# Altium integrated library TI Power Management Power Modules.IntLib: 831 symbols (part 13 of 44)
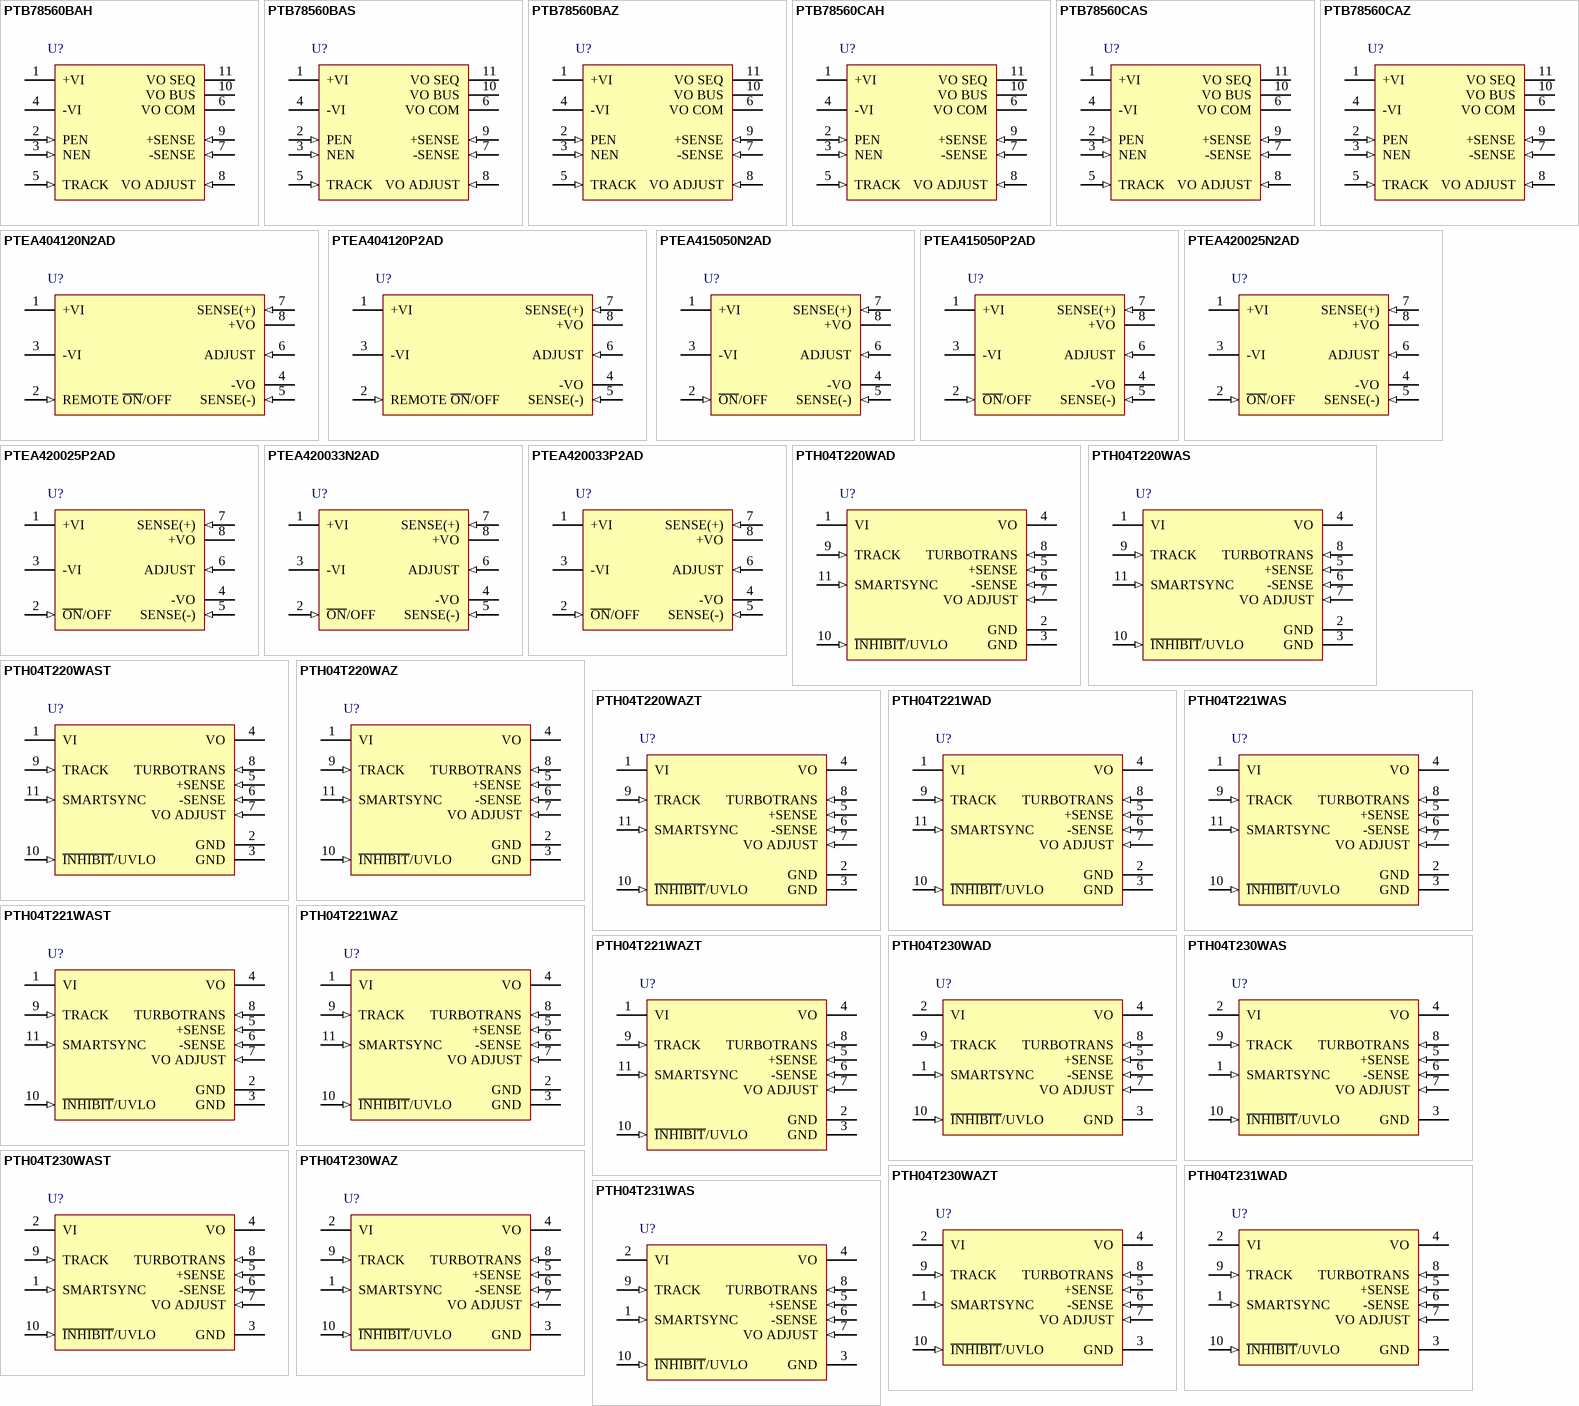
[diagram p35: symbols PTB78560BAH to PTH04T231WAS]

## PTH04T220WAZ
designator U?
16 A, 2.2 to 5.5 V Input, Non-Isolated, Wide-Output, Adjustable Power Module with TurboTrans, -40 to 85 degC, 11-pin Module (BBQ11), Pb-Free (RoHS); Manufacturer: Texas Instruments; PartNumber: PTH04T220WAZ; Iout(Max)(A): 16; Regulated Outputs(#): 1; SubFamily: Non-Isolated POL; Vin(Max)(V): 5.5; Vin(Min)(V): 2.2; VO Adjustable: TRUE; Vout(Max)(V): 3.6; Vout(Min)(V): 0.69; DatasheetVersion: SLTS275D; PackageVersion: 4208350/C; PackageReference: BBQ11; PackageDescription: 11-Pin Plastic Special Shape, Body 18.92 x 25.27 mm; Supplier 1: Digi-Key; Supplier Part Number 1: 296-21403-ND; Supplier 2: Newark; Supplier Part Number 2: 27M0667; Supplier 3: Mouser; Supplier Part Number 3: 595-PTH04T220WAZ; Eco-Plan: Pb-Free (RoHS); Mounting Technology: Surface Mount; ComponentLink1Description: Manufacturer URL; ComponentLink1URL: http://www.ti.com/; ComponentLink2Description: Datasheet; ComponentLink2URL: http://www.ti.com/general/docs/lit/getliterature.tsp?genericPartNumber=PTH04T220W&fileType=pdf; ComponentLink3Description: Package Specification; ComponentLink3URL: http://www.ti.com/lit/ml/mpds313b/mpds313b.pdf; ComponentLink4Description: URL Link1; ComponentLink4URL: Samples URL:http://www.ti.com/product/pth04t220w#samples
footprint TI-BBQ11_V (Module, 11-Leads, Body 25.27x18.92mm)
pins: 1 VI (power) "The positive input voltage power node to the module, which is referenced to common GND.", 2 GND (power) "This is the common ground connection for the VI and VO power connections. It is also the 0 Vdc reference for the control inputs.", 3 GND (power) "This is the common ground connection for the VI and VO power connections. It is also the 0 Vdc reference for the control inputs.", 4 VO (power) "The regulated positive power output with respect to the GND", 5 +SENSE (in) "The sense input allows the regulation circuit to compensate for voltage drop between the module and the load. For optimal voltage accuracy, +Sense must be connected to VO, close to the load.", 6 -SENSE (in) "The sense input allows the regulation circuit to compensate for voltage drop between the module and the load. For optimal voltage accuracy, -Sense must be connected to GND (pin 3), very close to the module (within 10 cm).", 7 VO ADJUST (in) "A 0.05 W 1% resistor must be directly connected between this pin and pin 6 (- Sense) to set the output voltage to a value higher than 0.69 V. The temperature stability of the resistor should be 100 ppm/degreesC (or better). (See Datasheet)", 8 TURBOTRANS (in) "This input pin adjusts the transient response of the regulator. To activate the TurboTrans feature, a 1%, 0.05 W resistor must be connected between this pin and pin 5 (+Sense) very close to the module. For a given value of (See Datasheet)", 9 TRACK (in) "This is an analog control input that enables the output voltage to follow an external voltage. This pin becomes active typically 20 ms after the input voltage has been applied, and allows direct control of the output voltage (See Datasheet)", 10 ~{INHIBIT}/UVLO (in) "The Inhibit pin is an open-collector/drain, negative logic input that is referenced to GND. Applying a low level ground signal to this input disables the module’s output and turns off the output voltage. When the Inhibit (See Datasheet)", 11 SMARTSYNC (in) "This input pin sychronizes the switching frequency of the module to an external clock frequency. The SmartSync feature can be used to sychronize the switching fequency of multiple PTH04T220/221W  modules, aiding EMI noise (See Datasheet)"

## PTH04T220WAZT
designator U?
16 A, 2.2 to 5.5 V Input, Non-Isolated, Wide-Output, Adjustable Power Module with TurboTrans, -40 to 85 degC, 11-pin Module (BBQ11), Pb-Free (RoHS); Manufacturer: Texas Instruments; PartNumber: PTH04T220WAZT; Iout(Max)(A): 16; Regulated Outputs(#): 1; SubFamily: Non-Isolated POL; Vin(Max)(V): 5.5; Vin(Min)(V): 2.2; VO Adjustable: TRUE; Vout(Max)(V): 3.6; Vout(Min)(V): 0.69; DatasheetVersion: SLTS275D; PackageVersion: 4208350/C; PackageReference: BBQ11; PackageDescription: 11-Pin Plastic Special Shape, Body 18.92 x 25.27 mm; Supplier 1: Digi-Key; Supplier Part Number 1: PTH04T220WAZT-ND; Supplier 2: Mouser; Supplier Part Number 2: 595-PTH04T220WAZT; Eco-Plan: Pb-Free (RoHS); Mounting Technology: Surface Mount; ComponentLink1Description: Manufacturer URL; ComponentLink1URL: http://www.ti.com/; ComponentLink2Description: Datasheet; ComponentLink2URL: http://www.ti.com/general/docs/lit/getliterature.tsp?genericPartNumber=PTH04T220W&fileType=pdf; ComponentLink3Description: Package Specification; ComponentLink3URL: http://www.ti.com/lit/ml/mpds313b/mpds313b.pdf; ComponentLink4Description: URL Link1; ComponentLink4URL: Samples URL:http://www.ti.com/product/tps55010#samples
footprint TI-BBQ11_V (Module, 11-Leads, Body 25.27x18.92mm)
pins: 1 VI (power) "The positive input voltage power node to the module, which is referenced to common GND.", 2 GND (power) "This is the common ground connection for the VI and VO power connections. It is also the 0 Vdc reference for the control inputs.", 3 GND (power) "This is the common ground connection for the VI and VO power connections. It is also the 0 Vdc reference for the control inputs.", 4 VO (power) "The regulated positive power output with respect to the GND", 5 +SENSE (in) "The sense input allows the regulation circuit to compensate for voltage drop between the module and the load. For optimal voltage accuracy, +Sense must be connected to VO, close to the load.", 6 -SENSE (in) "The sense input allows the regulation circuit to compensate for voltage drop between the module and the load. For optimal voltage accuracy, -Sense must be connected to GND (pin 3), very close to the module (within 10 cm).", 7 VO ADJUST (in) "A 0.05 W 1% resistor must be directly connected between this pin and pin 6 (- Sense) to set the output voltage to a value higher than 0.69 V. The temperature stability of the resistor should be 100 ppm/degreesC (or better). (See Datasheet)", 8 TURBOTRANS (in) "This input pin adjusts the transient response of the regulator. To activate the TurboTrans feature, a 1%, 0.05 W resistor must be connected between this pin and pin 5 (+Sense) very close to the module. For a given value of (See Datasheet)", 9 TRACK (in) "This is an analog control input that enables the output voltage to follow an external voltage. This pin becomes active typically 20 ms after the input voltage has been applied, and allows direct control of the output voltage (See Datasheet)", 10 ~{INHIBIT}/UVLO (in) "The Inhibit pin is an open-collector/drain, negative logic input that is referenced to GND. Applying a low level ground signal to this input disables the module’s output and turns off the output voltage. When the Inhibit (See Datasheet)", 11 SMARTSYNC (in) "This input pin sychronizes the switching frequency of the module to an external clock frequency. The SmartSync feature can be used to sychronize the switching fequency of multiple PTH04T220/221W  modules, aiding EMI noise (See Datasheet)"

## PTH04T221WAD
designator U?
16 A, 2.2 to 5.5 V Input, Ceramic Cap Version, Non-Isolated, Wide-Output, Power Module with TurboTrans, -40 to 85 degC, 11-pin Module (EBP11), Pb-Free (RoHS); Manufacturer: Texas Instruments; PartNumber: PTH04T221WAD; Iout(Max)(A): 16; Regulated Outputs(#): 1; SubFamily: Non-Isolated POL; Vin(Max)(V): 5.5; Vin(Min)(V): 2.2; VO Adjustable: TRUE; Vout(Max)(V): 3.6; Vout(Min)(V): 0.69; DatasheetVersion: SLTS275D; PackageVersion: 4208348/C; PackageReference: EBP11; PackageDescription: 11-Pin Plastic Special Shape, Body 18.92 x 25.27 mm; Supplier 1: Digi-Key; Supplier Part Number 1: 296-21787-ND; Supplier 2: Newark; Supplier Part Number 2: 41M4000; Supplier 3: Mouser; Supplier Part Number 3: 595-PTH04T221WAD; Eco-Plan: Pb-Free (RoHS); Mounting Technology: Through Hole; ComponentLink1Description: Manufacturer URL; ComponentLink1URL: http://www.ti.com/; ComponentLink2Description: Datasheet; ComponentLink2URL: http://www.ti.com/general/docs/lit/getliterature.tsp?genericPartNumber=PTH04T221W&fileType=pdf; ComponentLink3Description: Package Specification; ComponentLink3URL: http://www.ti.com/litv/pdf/mpds311b; ComponentLink4Description: URL Link1; ComponentLink4URL: Samples URL:http://www.ti.com/product/pth04t221w#samples
footprint TI-EBP11_V (Module, 11-Leads, Body 25.27x18.92mm)
pins: 1 VI (power) "The positive input voltage power node to the module, which is referenced to common GND.", 2 GND (power) "This is the common ground connection for the VI and VO power connections. It is also the 0 Vdc reference for the control inputs.", 3 GND (power) "This is the common ground connection for the VI and VO power connections. It is also the 0 Vdc reference for the control inputs.", 4 VO (power) "The regulated positive power output with respect to the GND", 5 +SENSE (in) "The sense input allows the regulation circuit to compensate for voltage drop between the module and the load. For optimal voltage accuracy, +Sense must be connected to VO, close to the load.", 6 -SENSE (in) "The sense input allows the regulation circuit to compensate for voltage drop between the module and the load. For optimal voltage accuracy, -Sense must be connected to GND (pin 3), very close to the module (within 10 cm).", 7 VO ADJUST (in) "A 0.05 W 1% resistor must be directly connected between this pin and pin 6 (- Sense) to set the output voltage to a value higher than 0.69 V. The temperature stability of the resistor should be 100 ppm/degreesC (or better). (See Datasheet)", 8 TURBOTRANS (in) "This input pin adjusts the transient response of the regulator. To activate the TurboTrans feature, a 1%, 0.05 W resistor must be connected between this pin and pin 5 (+Sense) very close to the module. For a given value of (See Datasheet)", 9 TRACK (in) "This is an analog control input that enables the output voltage to follow an external voltage. This pin becomes active typically 20 ms after the input voltage has been applied, and allows direct control of the output voltage (See Datasheet)", 10 ~{INHIBIT}/UVLO (in) "The Inhibit pin is an open-collector/drain, negative logic input that is referenced to GND. Applying a low level ground signal to this input disables the module’s output and turns off the output voltage. When the Inhibit (See Datasheet)", 11 SMARTSYNC (in) "This input pin sychronizes the switching frequency of the module to an external clock frequency. The SmartSync feature can be used to sychronize the switching fequency of multiple PTH04T220/221W  modules, aiding EMI noise (See Datasheet)"

## PTH04T221WAS
designator U?
16 A, 2.2 to 5.5 V Input, Ceramic Cap Version, Non-Isolated, Wide-Output, Power Module with TurboTrans, -40 to 85 degC, 11-pin Module (EBQ11); Manufacturer: Texas Instruments; PartNumber: PTH04T221WAS; Eco-Plan: TBD; Iout(Max)(A): 16; Regulated Outputs(#): 1; SubFamily: Non-Isolated POL; Vin(Max)(V): 5.5; Vin(Min)(V): 2.2; VO Adjustable: TRUE; Vout(Max)(V): 3.6; Vout(Min)(V): 0.69; DatasheetVersion: SLTS275D; PackageVersion: 4208349/C; PackageReference: EBQ11; PackageDescription: 11-Pin Plastic Special Shape, Body 18.92 x 25.27 mm; Supplier 1: Digi-Key; Supplier Part Number 1: 296-21788-ND; Supplier 2: Newark; Supplier Part Number 2: 41M4001; Supplier 3: Mouser; Supplier Part Number 3: 595-PTH04T221WAS; Mounting Technology: Surface Mount; ComponentLink1Description: Manufacturer URL; ComponentLink1URL: http://www.ti.com/; ComponentLink2Description: Datasheet; ComponentLink2URL: http://www.ti.com/general/docs/lit/getliterature.tsp?genericPartNumber=PTH04T221W&fileType=pdf; ComponentLink3Description: Package Specification; ComponentLink3URL: http://www.ti.com/lit/ml/mpds314b/mpds314b.pdf; ComponentLink4Description: URL Link1; ComponentLink4URL: Samples URL:http://www.ti.com/product/pth04t221w#samples
footprint TI-EBQ11_V (Module, 11-Leads, Body 25.27x18.92mm)
pins: 1 VI (power) "The positive input voltage power node to the module, which is referenced to common GND.", 2 GND (power) "This is the common ground connection for the VI and VO power connections. It is also the 0 Vdc reference for the control inputs.", 3 GND (power) "This is the common ground connection for the VI and VO power connections. It is also the 0 Vdc reference for the control inputs.", 4 VO (power) "The regulated positive power output with respect to the GND", 5 +SENSE (in) "The sense input allows the regulation circuit to compensate for voltage drop between the module and the load. For optimal voltage accuracy, +Sense must be connected to VO, close to the load.", 6 -SENSE (in) "The sense input allows the regulation circuit to compensate for voltage drop between the module and the load. For optimal voltage accuracy, -Sense must be connected to GND (pin 3), very close to the module (within 10 cm).", 7 VO ADJUST (in) "A 0.05 W 1% resistor must be directly connected between this pin and pin 6 (- Sense) to set the output voltage to a value higher than 0.69 V. The temperature stability of the resistor should be 100 ppm/degreesC (or better). (See Datasheet)", 8 TURBOTRANS (in) "This input pin adjusts the transient response of the regulator. To activate the TurboTrans feature, a 1%, 0.05 W resistor must be connected between this pin and pin 5 (+Sense) very close to the module. For a given value of (See Datasheet)", 9 TRACK (in) "This is an analog control input that enables the output voltage to follow an external voltage. This pin becomes active typically 20 ms after the input voltage has been applied, and allows direct control of the output voltage (See Datasheet)", 10 ~{INHIBIT}/UVLO (in) "The Inhibit pin is an open-collector/drain, negative logic input that is referenced to GND. Applying a low level ground signal to this input disables the module’s output and turns off the output voltage. When the Inhibit (See Datasheet)", 11 SMARTSYNC (in) "This input pin sychronizes the switching frequency of the module to an external clock frequency. The SmartSync feature can be used to sychronize the switching fequency of multiple PTH04T220/221W  modules, aiding EMI noise (See Datasheet)"

## PTH04T221WAST
designator U?
16 A, 2.2 to 5.5 V Input, Ceramic Cap Version, Non-Isolated, Wide-Output, Power Module with TurboTrans, -40 to 85 degC, 11-pin Module (EBQ11); Manufacturer: Texas Instruments; PartNumber: PTH04T221WAST; Eco-Plan: TBD; Iout(Max)(A): 16; Regulated Outputs(#): 1; SubFamily: Non-Isolated POL; Vin(Max)(V): 5.5; Vin(Min)(V): 2.2; VO Adjustable: TRUE; Vout(Max)(V): 3.6; Vout(Min)(V): 0.69; DatasheetVersion: SLTS275D; PackageVersion: 4208349/C; PackageReference: EBQ11; PackageDescription: 11-Pin Plastic Special Shape, Body 18.92 x 25.27 mm; Supplier 1: Digi-Key; Supplier Part Number 1: PTH04T221WAST-ND; Supplier 2: Mouser; Supplier Part Number 2: 595-PTH04T221WAST; Mounting Technology: Surface Mount; ComponentLink1Description: Manufacturer URL; ComponentLink1URL: http://www.ti.com/; ComponentLink2Description: Datasheet; ComponentLink2URL: http://www.ti.com/general/docs/lit/getliterature.tsp?genericPartNumber=PTH04T221W&fileType=pdf; ComponentLink3Description: Package Specification; ComponentLink3URL: http://www.ti.com/lit/ml/mpds314b/mpds314b.pdf; ComponentLink4Description: URL Link1; ComponentLink4URL: Samples URL:http://www.ti.com/product/pth04t221w#samples
footprint TI-EBQ11_V (Module, 11-Leads, Body 25.27x18.92mm)
pins: 1 VI (power) "The positive input voltage power node to the module, which is referenced to common GND.", 2 GND (power) "This is the common ground connection for the VI and VO power connections. It is also the 0 Vdc reference for the control inputs.", 3 GND (power) "This is the common ground connection for the VI and VO power connections. It is also the 0 Vdc reference for the control inputs.", 4 VO (power) "The regulated positive power output with respect to the GND", 5 +SENSE (in) "The sense input allows the regulation circuit to compensate for voltage drop between the module and the load. For optimal voltage accuracy, +Sense must be connected to VO, close to the load.", 6 -SENSE (in) "The sense input allows the regulation circuit to compensate for voltage drop between the module and the load. For optimal voltage accuracy, -Sense must be connected to GND (pin 3), very close to the module (within 10 cm).", 7 VO ADJUST (in) "A 0.05 W 1% resistor must be directly connected between this pin and pin 6 (- Sense) to set the output voltage to a value higher than 0.69 V. The temperature stability of the resistor should be 100 ppm/degreesC (or better). (See Datasheet)", 8 TURBOTRANS (in) "This input pin adjusts the transient response of the regulator. To activate the TurboTrans feature, a 1%, 0.05 W resistor must be connected between this pin and pin 5 (+Sense) very close to the module. For a given value of (See Datasheet)", 9 TRACK (in) "This is an analog control input that enables the output voltage to follow an external voltage. This pin becomes active typically 20 ms after the input voltage has been applied, and allows direct control of the output voltage (See Datasheet)", 10 ~{INHIBIT}/UVLO (in) "The Inhibit pin is an open-collector/drain, negative logic input that is referenced to GND. Applying a low level ground signal to this input disables the module’s output and turns off the output voltage. When the Inhibit (See Datasheet)", 11 SMARTSYNC (in) "This input pin sychronizes the switching frequency of the module to an external clock frequency. The SmartSync feature can be used to sychronize the switching fequency of multiple PTH04T220/221W  modules, aiding EMI noise (See Datasheet)"

## PTH04T221WAZ
designator U?
16 A, 2.2 to 5.5 V Input, Ceramic Cap Version, Non-Isolated, Wide-Output, Power Module with TurboTrans, -40 to 85 degC, 11-pin Module (BBQ11), Pb-Free (RoHS); Manufacturer: Texas Instruments; PartNumber: PTH04T221WAZ; Iout(Max)(A): 16; Regulated Outputs(#): 1; SubFamily: Non-Isolated POL; Vin(Max)(V): 5.5; Vin(Min)(V): 2.2; VO Adjustable: TRUE; Vout(Max)(V): 3.6; Vout(Min)(V): 0.69; DatasheetVersion: SLTS275D; PackageVersion: 4208350/C; PackageReference: BBQ11; PackageDescription: 11-Pin Plastic Special Shape, Body 18.92 x 25.27 mm; Supplier 1: Digi-Key; Supplier Part Number 1: 296-21789-ND; Supplier 2: Newark; Supplier Part Number 2: 41M4003; Supplier 3: Mouser; Supplier Part Number 3: 595-PTH04T221WAZ; Eco-Plan: Pb-Free (RoHS); Mounting Technology: Surface Mount; ComponentLink1Description: Manufacturer URL; ComponentLink1URL: http://www.ti.com/; ComponentLink2Description: Datasheet; ComponentLink2URL: http://www.ti.com/general/docs/lit/getliterature.tsp?genericPartNumber=PTH04T221W&fileType=pdf; ComponentLink3Description: Package Specification; ComponentLink3URL: http://www.ti.com/lit/ml/mpds313b/mpds313b.pdf; ComponentLink4Description: URL Link1; ComponentLink4URL: Samples URL:http://www.ti.com/product/pth04t221w#samples
footprint TI-BBQ11_V (Module, 11-Leads, Body 25.27x18.92mm)
pins: 1 VI (power) "The positive input voltage power node to the module, which is referenced to common GND.", 2 GND (power) "This is the common ground connection for the VI and VO power connections. It is also the 0 Vdc reference for the control inputs.", 3 GND (power) "This is the common ground connection for the VI and VO power connections. It is also the 0 Vdc reference for the control inputs.", 4 VO (power) "The regulated positive power output with respect to the GND", 5 +SENSE (in) "The sense input allows the regulation circuit to compensate for voltage drop between the module and the load. For optimal voltage accuracy, +Sense must be connected to VO, close to the load.", 6 -SENSE (in) "The sense input allows the regulation circuit to compensate for voltage drop between the module and the load. For optimal voltage accuracy, -Sense must be connected to GND (pin 3), very close to the module (within 10 cm).", 7 VO ADJUST (in) "A 0.05 W 1% resistor must be directly connected between this pin and pin 6 (- Sense) to set the output voltage to a value higher than 0.69 V. The temperature stability of the resistor should be 100 ppm/degreesC (or better). (See Datasheet)", 8 TURBOTRANS (in) "This input pin adjusts the transient response of the regulator. To activate the TurboTrans feature, a 1%, 0.05 W resistor must be connected between this pin and pin 5 (+Sense) very close to the module. For a given value of (See Datasheet)", 9 TRACK (in) "This is an analog control input that enables the output voltage to follow an external voltage. This pin becomes active typically 20 ms after the input voltage has been applied, and allows direct control of the output voltage (See Datasheet)", 10 ~{INHIBIT}/UVLO (in) "The Inhibit pin is an open-collector/drain, negative logic input that is referenced to GND. Applying a low level ground signal to this input disables the module’s output and turns off the output voltage. When the Inhibit (See Datasheet)", 11 SMARTSYNC (in) "This input pin sychronizes the switching frequency of the module to an external clock frequency. The SmartSync feature can be used to sychronize the switching fequency of multiple PTH04T220/221W  modules, aiding EMI noise (See Datasheet)"

## PTH04T221WAZT
designator U?
16 A, 2.2 to 5.5 V Input, Ceramic Cap Version, Non-Isolated, Wide-Output, Power Module with TurboTrans, -40 to 85 degC, 11-pin Module (BBQ11), Pb-Free (RoHS); Manufacturer: Texas Instruments; PartNumber: PTH04T221WAZT; Iout(Max)(A): 16; Regulated Outputs(#): 1; SubFamily: Non-Isolated POL; Vin(Max)(V): 5.5; Vin(Min)(V): 2.2; VO Adjustable: TRUE; Vout(Max)(V): 3.6; Vout(Min)(V): 0.69; DatasheetVersion: SLTS275D; PackageVersion: 4208350/C; PackageReference: BBQ11; PackageDescription: 11-Pin Plastic Special Shape, Body 18.92 x 25.27 mm; Supplier 1: Digi-Key; Supplier Part Number 1: PTH04T221WAZT-ND; Supplier 2: Mouser; Supplier Part Number 2: 595-PTH04T221WAZT; Eco-Plan: Pb-Free (RoHS); Mounting Technology: Surface Mount; ComponentLink1Description: Manufacturer URL; ComponentLink1URL: http://www.ti.com/; ComponentLink2Description: Datasheet; ComponentLink2URL: http://www.ti.com/general/docs/lit/getliterature.tsp?genericPartNumber=PTH04T221W&fileType=pdf; ComponentLink3Description: Package Specification; ComponentLink3URL: http://www.ti.com/lit/ml/mpds313b/mpds313b.pdf; ComponentLink4Description: URL Link1; ComponentLink4URL: Samples URL:http://www.ti.com/product/tps55010#samples
footprint TI-BBQ11_V (Module, 11-Leads, Body 25.27x18.92mm)
pins: 1 VI (power) "The positive input voltage power node to the module, which is referenced to common GND.", 2 GND (power) "This is the common ground connection for the VI and VO power connections. It is also the 0 Vdc reference for the control inputs.", 3 GND (power) "This is the common ground connection for the VI and VO power connections. It is also the 0 Vdc reference for the control inputs.", 4 VO (power) "The regulated positive power output with respect to the GND", 5 +SENSE (in) "The sense input allows the regulation circuit to compensate for voltage drop between the module and the load. For optimal voltage accuracy, +Sense must be connected to VO, close to the load.", 6 -SENSE (in) "The sense input allows the regulation circuit to compensate for voltage drop between the module and the load. For optimal voltage accuracy, -Sense must be connected to GND (pin 3), very close to the module (within 10 cm).", 7 VO ADJUST (in) "A 0.05 W 1% resistor must be directly connected between this pin and pin 6 (- Sense) to set the output voltage to a value higher than 0.69 V. The temperature stability of the resistor should be 100 ppm/degreesC (or better). (See Datasheet)", 8 TURBOTRANS (in) "This input pin adjusts the transient response of the regulator. To activate the TurboTrans feature, a 1%, 0.05 W resistor must be connected between this pin and pin 5 (+Sense) very close to the module. For a given value of (See Datasheet)", 9 TRACK (in) "This is an analog control input that enables the output voltage to follow an external voltage. This pin becomes active typically 20 ms after the input voltage has been applied, and allows direct control of the output voltage (See Datasheet)", 10 ~{INHIBIT}/UVLO (in) "The Inhibit pin is an open-collector/drain, negative logic input that is referenced to GND. Applying a low level ground signal to this input disables the module’s output and turns off the output voltage. When the Inhibit (See Datasheet)", 11 SMARTSYNC (in) "This input pin sychronizes the switching frequency of the module to an external clock frequency. The SmartSync feature can be used to sychronize the switching fequency of multiple PTH04T220/221W  modules, aiding EMI noise (See Datasheet)"

## PTH04T230WAD
designator U?
6 A, 2.2 to 5.5 V Input, Non-Isolated, Wide Output, Adjustable Power Module with TurboTrans, -40 to 85 degC, 10-pin Module (ECL10), Pb-Free (RoHS); Manufacturer: Texas Instruments; PartNumber: PTH04T230WAD; Iout(Max)(A): 6; Regulated Outputs(#): 1; SubFamily: Non-Isolated POL; Vin(Max)(V): 5.5; Vin(Min)(V): 2.2; VO Adjustable: TRUE; Vout(Max)(V): 3.6; Vout(Min)(V): 0.69; DatasheetVersion: SLTS271C; PackageVersion: 4207913/D; PackageReference: ECL10; PackageDescription: 10-Pin Plastic Special Shape, Body 15.75 x 18.92 mm; Supplier 1: Digi-Key; Supplier Part Number 1: 296-21310-ND; Supplier 2: Newark; Supplier Part Number 2: 18M7532; Supplier 3: Mouser; Supplier Part Number 3: 595-PTH04T230WAD; Eco-Plan: Pb-Free (RoHS); Mounting Technology: Through Hole; ComponentLink1Description: Manufacturer URL; ComponentLink1URL: http://www.ti.com/; ComponentLink2Description: Datasheet; ComponentLink2URL: http://www.ti.com/general/docs/lit/getliterature.tsp?genericPartNumber=PTH04T230W&fileType=pdf; ComponentLink3Description: Package Specification; ComponentLink3URL: http://www.ti.com/litv/pdf/mpds290c; ComponentLink4Description: URL Link1; ComponentLink4URL: Samples URL:http://www.ti.com/product/pth04t230w#samples
footprint TI-ECL10_V (Module, 10-Leads, Body 18.92x15.75 mm)
pins: 1 SMARTSYNC (in) "This input pin sychronizes the switching frequency of the module to an external clock frequency. The SmartSync feature can be used to sychronize the switching fequency of multiple PTH04T230/231W modules, aiding EMI noise (See Datasheet)", 2 VI (power) "The positive input voltage power node to the module, which is referenced to common GND.", 3 GND (power) "This is the common ground connection for the VI and VO power connections. It is also the 0 Vdc reference for the control inputs.", 4 VO (power) "The regulated positive power output with respect to the GND", 5 +SENSE (in) "The sense input allows the regulation circuit to compensate for voltage drop between the module and the load. For optimal voltage accuracy, +Sense must be connected to VO, close to the load.", 6 -SENSE (in) "The sense input allows the regulation circuit to compensate for voltage drop between the module and the load. For optimal voltage accuracy, -Sense must be connected to GND (pin 3), very close to the module (within 10 cm).", 7 VO ADJUST (in) "A 0.05 W 1% resistor must be directly connected between this pin and pin 6 (- Sense) to set the output voltage to a value higher than 0.69 V. The temperature stability of the resistor should be 100 ppm/degreesC (or better). (See Datasheet)", 8 TURBOTRANS (in) "This input pin adjusts the transient response of the regulator. To activate the TurboTrans feature, a 1%, 0.05 W resistor must be connected between this pin and pin 5 (+Sense) very close to the module. For a given value of (See Datasheet)", 9 TRACK (in) "This is an analog control input that enables the output voltage to follow an external voltage. This pin becomes active typically 20 ms after the input voltage has been applied, and allows direct control of the output voltage (See Datasheet)", 10 ~{INHIBIT}/UVLO (in) "The Inhibit pin is an open-collector/drain, negative logic input that is referenced to GND. Applying a low level ground signal to this input disables the module’s output and turns off the output voltage. When the Inhibit (See Datasheet)"

## PTH04T230WAS
designator U?
6 A, 2.2 to 5.5 V Input, Non-Isolated, Wide Output, Adjustable Power Module with TurboTrans, -40 to 85 degC, 10-pin Module (ECM10); Manufacturer: Texas Instruments; PartNumber: PTH04T230WAS; Eco-Plan: TBD; Iout(Max)(A): 6; Regulated Outputs(#): 1; SubFamily: Non-Isolated POL; Vin(Max)(V): 5.5; Vin(Min)(V): 2.2; VO Adjustable: TRUE; Vout(Max)(V): 3.6; Vout(Min)(V): 0.69; DatasheetVersion: SLTS271C; PackageVersion: 4207914/E; PackageReference: ECM10; PackageDescription: 10-Pin Plastic Special Shape, Body 15.75 x 18.92 mm; Supplier 1: Digi-Key; Supplier Part Number 1: 296-21311-ND; Supplier 2: Newark; Supplier Part Number 2: 18M7533; Supplier 3: Mouser; Supplier Part Number 3: 595-PTH04T230WAS; Mounting Technology: Surface Mount; ComponentLink1Description: Manufacturer URL; ComponentLink1URL: http://www.ti.com/; ComponentLink2Description: Datasheet; ComponentLink2URL: http://www.ti.com/general/docs/lit/getliterature.tsp?genericPartNumber=PTH04T230W&fileType=pdf; ComponentLink3Description: Package Specification; ComponentLink3URL: http://www.ti.com/litv/pdf/mpds291d; ComponentLink4Description: URL Link1; ComponentLink4URL: Samples URL:http://www.ti.com/product/pth04t230w#samples
footprint TI-ECM10_V (Module, 10-Leads, Body 18.92x15.75mm)
pins: 1 SMARTSYNC (in) "This input pin sychronizes the switching frequency of the module to an external clock frequency. The SmartSync feature can be used to sychronize the switching fequency of multiple PTH04T230/231W modules, aiding EMI noise (See Datasheet)", 2 VI (power) "The positive input voltage power node to the module, which is referenced to common GND.", 3 GND (power) "This is the common ground connection for the VI and VO power connections. It is also the 0 Vdc reference for the control inputs.", 4 VO (power) "The regulated positive power output with respect to the GND", 5 +SENSE (in) "The sense input allows the regulation circuit to compensate for voltage drop between the module and the load. For optimal voltage accuracy, +Sense must be connected to VO, close to the load.", 6 -SENSE (in) "The sense input allows the regulation circuit to compensate for voltage drop between the module and the load. For optimal voltage accuracy, -Sense must be connected to GND (pin 3), very close to the module (within 10 cm).", 7 VO ADJUST (in) "A 0.05 W 1% resistor must be directly connected between this pin and pin 6 (- Sense) to set the output voltage to a value higher than 0.69 V. The temperature stability of the resistor should be 100 ppm/degreesC (or better). (See Datasheet)", 8 TURBOTRANS (in) "This input pin adjusts the transient response of the regulator. To activate the TurboTrans feature, a 1%, 0.05 W resistor must be connected between this pin and pin 5 (+Sense) very close to the module. For a given value of (See Datasheet)", 9 TRACK (in) "This is an analog control input that enables the output voltage to follow an external voltage. This pin becomes active typically 20 ms after the input voltage has been applied, and allows direct control of the output voltage (See Datasheet)", 10 ~{INHIBIT}/UVLO (in) "The Inhibit pin is an open-collector/drain, negative logic input that is referenced to GND. Applying a low level ground signal to this input disables the module’s output and turns off the output voltage. When the Inhibit (See Datasheet)"

## PTH04T230WAST
designator U?
6 A, 2.2 to 5.5 V Input, Non-Isolated, Wide Output, Adjustable Power Module with TurboTrans, -40 to 85 degC, 10-pin Module (ECM10); Manufacturer: Texas Instruments; PartNumber: PTH04T230WAST; Eco-Plan: TBD; Iout(Max)(A): 6; Regulated Outputs(#): 1; SubFamily: Non-Isolated POL; Vin(Max)(V): 5.5; Vin(Min)(V): 2.2; VO Adjustable: TRUE; Vout(Max)(V): 3.6; Vout(Min)(V): 0.69; DatasheetVersion: SLTS271C; PackageVersion: 4207914/E; PackageReference: ECM10; PackageDescription: 10-Pin Plastic Special Shape, Body 15.75 x 18.92 mm; Supplier 1: Digi-Key; Supplier Part Number 1: PTH04T230WAST-ND; Supplier 2: Newark; Supplier Part Number 2: 18M7534; Supplier 3: Mouser; Supplier Part Number 3: 595-PTH04T230WAST; Mounting Technology: Surface Mount; ComponentLink1Description: Manufacturer URL; ComponentLink1URL: http://www.ti.com/; ComponentLink2Description: Datasheet; ComponentLink2URL: http://www.ti.com/general/docs/lit/getliterature.tsp?genericPartNumber=PTH04T230W&fileType=pdf; ComponentLink3Description: Package Specification; ComponentLink3URL: http://www.ti.com/litv/pdf/mpds291d; ComponentLink4Description: URL Link1; ComponentLink4URL: Samples URL:http://www.ti.com/product/pth04t230w#samples
footprint TI-ECM10_V (Module, 10-Leads, Body 18.92x15.75mm)
pins: 1 SMARTSYNC (in) "This input pin sychronizes the switching frequency of the module to an external clock frequency. The SmartSync feature can be used to sychronize the switching fequency of multiple PTH04T230/231W modules, aiding EMI noise (See Datasheet)", 2 VI (power) "The positive input voltage power node to the module, which is referenced to common GND.", 3 GND (power) "This is the common ground connection for the VI and VO power connections. It is also the 0 Vdc reference for the control inputs.", 4 VO (power) "The regulated positive power output with respect to the GND", 5 +SENSE (in) "The sense input allows the regulation circuit to compensate for voltage drop between the module and the load. For optimal voltage accuracy, +Sense must be connected to VO, close to the load.", 6 -SENSE (in) "The sense input allows the regulation circuit to compensate for voltage drop between the module and the load. For optimal voltage accuracy, -Sense must be connected to GND (pin 3), very close to the module (within 10 cm).", 7 VO ADJUST (in) "A 0.05 W 1% resistor must be directly connected between this pin and pin 6 (- Sense) to set the output voltage to a value higher than 0.69 V. The temperature stability of the resistor should be 100 ppm/degreesC (or better). (See Datasheet)", 8 TURBOTRANS (in) "This input pin adjusts the transient response of the regulator. To activate the TurboTrans feature, a 1%, 0.05 W resistor must be connected between this pin and pin 5 (+Sense) very close to the module. For a given value of (See Datasheet)", 9 TRACK (in) "This is an analog control input that enables the output voltage to follow an external voltage. This pin becomes active typically 20 ms after the input voltage has been applied, and allows direct control of the output voltage (See Datasheet)", 10 ~{INHIBIT}/UVLO (in) "The Inhibit pin is an open-collector/drain, negative logic input that is referenced to GND. Applying a low level ground signal to this input disables the module’s output and turns off the output voltage. When the Inhibit (See Datasheet)"

## PTH04T230WAZ
designator U?
6 A, 2.2 to 5.5 V Input, Non-Isolated, Wide Output, Adjustable Power Module with TurboTrans, -40 to 85 degC, 10-pin Module (BCM10), Pb-Free (RoHS); Manufacturer: Texas Instruments; PartNumber: PTH04T230WAZ; Iout(Max)(A): 6; Regulated Outputs(#): 1; SubFamily: Non-Isolated POL; Vin(Max)(V): 5.5; Vin(Min)(V): 2.2; VO Adjustable: TRUE; Vout(Max)(V): 3.6; Vout(Min)(V): 0.69; DatasheetVersion: SLTS271C; PackageVersion: 4207915/E; PackageReference: BCM10; PackageDescription: 10-Pin Plastic Special Shape, Body 15.75 x 18.92 mm; Supplier 1: Digi-Key; Supplier Part Number 1: 296-21312-ND; Supplier 2: Newark; Supplier Part Number 2: 18M7535; Supplier 3: Mouser; Supplier Part Number 3: 595-PTH04T230WAZ; Eco-Plan: Pb-Free (RoHS); Mounting Technology: Surface Mount; ComponentLink1Description: Manufacturer URL; ComponentLink1URL: http://www.ti.com/; ComponentLink2Description: Datasheet; ComponentLink2URL: http://www.ti.com/general/docs/lit/getliterature.tsp?genericPartNumber=PTH04T230W&fileType=pdf; ComponentLink3Description: Package Specification; ComponentLink3URL: http://www.ti.com/lit/ml/mpds292d/mpds292d.pdf; ComponentLink4Description: URL Link1; ComponentLink4URL: Samples URL:http://www.ti.com/product/pth04t230w#samples
footprint TI-BCM10_V (10-Leads Double Sided Module, Body 18.92x15.75mm)
pins: 1 SMARTSYNC (in) "This input pin sychronizes the switching frequency of the module to an external clock frequency. The SmartSync feature can be used to sychronize the switching fequency of multiple PTH04T230/231W modules, aiding EMI noise (See Datasheet)", 2 VI (power) "The positive input voltage power node to the module, which is referenced to common GND.", 3 GND (power) "This is the common ground connection for the VI and VO power connections. It is also the 0 Vdc reference for the control inputs.", 4 VO (power) "The regulated positive power output with respect to the GND", 5 +SENSE (in) "The sense input allows the regulation circuit to compensate for voltage drop between the module and the load. For optimal voltage accuracy, +Sense must be connected to VO, close to the load.", 6 -SENSE (in) "The sense input allows the regulation circuit to compensate for voltage drop between the module and the load. For optimal voltage accuracy, -Sense must be connected to GND (pin 3), very close to the module (within 10 cm).", 7 VO ADJUST (in) "A 0.05 W 1% resistor must be directly connected between this pin and pin 6 (- Sense) to set the output voltage to a value higher than 0.69 V. The temperature stability of the resistor should be 100 ppm/degreesC (or better). (See Datasheet)", 8 TURBOTRANS (in) "This input pin adjusts the transient response of the regulator. To activate the TurboTrans feature, a 1%, 0.05 W resistor must be connected between this pin and pin 5 (+Sense) very close to the module. For a given value of (See Datasheet)", 9 TRACK (in) "This is an analog control input that enables the output voltage to follow an external voltage. This pin becomes active typically 20 ms after the input voltage has been applied, and allows direct control of the output voltage (See Datasheet)", 10 ~{INHIBIT}/UVLO (in) "The Inhibit pin is an open-collector/drain, negative logic input that is referenced to GND. Applying a low level ground signal to this input disables the module’s output and turns off the output voltage. When the Inhibit (See Datasheet)"

## PTH04T230WAZT
designator U?
6 A, 2.2 to 5.5 V Input, Non-Isolated, Wide Output, Adjustable Power Module with TurboTrans, -40 to 85 degC, 10-pin Module (BCM10), Pb-Free (RoHS); Manufacturer: Texas Instruments; PartNumber: PTH04T230WAZT; Iout(Max)(A): 6; Regulated Outputs(#): 1; SubFamily: Non-Isolated POL; Vin(Max)(V): 5.5; Vin(Min)(V): 2.2; VO Adjustable: TRUE; Vout(Max)(V): 3.6; Vout(Min)(V): 0.69; DatasheetVersion: SLTS271C; PackageVersion: 4207915/E; PackageReference: BCM10; PackageDescription: 10-Pin Plastic Special Shape, Body 15.75 x 18.92 mm; Supplier 1: Digi-Key; Supplier Part Number 1: PTH04T230WAZT-ND; Supplier 2: Newark; Supplier Part Number 2: 18M7536; Supplier 3: Mouser; Supplier Part Number 3: 595-PTH04T230WAZT; Eco-Plan: Pb-Free (RoHS); Mounting Technology: Surface Mount; ComponentLink1Description: Manufacturer URL; ComponentLink1URL: http://www.ti.com/; ComponentLink2Description: Datasheet; ComponentLink2URL: http://www.ti.com/general/docs/lit/getliterature.tsp?genericPartNumber=PTH04T230W&fileType=pdf; ComponentLink3Description: Package Specification; ComponentLink3URL: http://www.ti.com/lit/ml/mpds292d/mpds292d.pdf; ComponentLink4Description: URL Link1; ComponentLink4URL: Samples URL:http://www.ti.com/product/tps55010#samples
footprint TI-BCM10_V (10-Leads Double Sided Module, Body 18.92x15.75mm)
pins: 1 SMARTSYNC (in) "This input pin sychronizes the switching frequency of the module to an external clock frequency. The SmartSync feature can be used to sychronize the switching fequency of multiple PTH04T230/231W modules, aiding EMI noise (See Datasheet)", 2 VI (power) "The positive input voltage power node to the module, which is referenced to common GND.", 3 GND (power) "This is the common ground connection for the VI and VO power connections. It is also the 0 Vdc reference for the control inputs.", 4 VO (power) "The regulated positive power output with respect to the GND", 5 +SENSE (in) "The sense input allows the regulation circuit to compensate for voltage drop between the module and the load. For optimal voltage accuracy, +Sense must be connected to VO, close to the load.", 6 -SENSE (in) "The sense input allows the regulation circuit to compensate for voltage drop between the module and the load. For optimal voltage accuracy, -Sense must be connected to GND (pin 3), very close to the module (within 10 cm).", 7 VO ADJUST (in) "A 0.05 W 1% resistor must be directly connected between this pin and pin 6 (- Sense) to set the output voltage to a value higher than 0.69 V. The temperature stability of the resistor should be 100 ppm/degreesC (or better). (See Datasheet)", 8 TURBOTRANS (in) "This input pin adjusts the transient response of the regulator. To activate the TurboTrans feature, a 1%, 0.05 W resistor must be connected between this pin and pin 5 (+Sense) very close to the module. For a given value of (See Datasheet)", 9 TRACK (in) "This is an analog control input that enables the output voltage to follow an external voltage. This pin becomes active typically 20 ms after the input voltage has been applied, and allows direct control of the output voltage (See Datasheet)", 10 ~{INHIBIT}/UVLO (in) "The Inhibit pin is an open-collector/drain, negative logic input that is referenced to GND. Applying a low level ground signal to this input disables the module’s output and turns off the output voltage. When the Inhibit (See Datasheet)"

## PTH04T231WAD
designator U?
6 A, 2.2 to 5.5 V Input, Ceramic Cap Version, Non-Iso, Wide-Output, Adj Power Module with TurboTrans, -40 to 85 degC, 10-pin Module (ECL10), Pb-Free (RoHS); Manufacturer: Texas Instruments; PartNumber: PTH04T231WAD; Iout(Max)(A): 6; Regulated Outputs(#): 1; SubFamily: Non-Isolated POL; Vin(Max)(V): 5.5; Vin(Min)(V): 2.2; VO Adjustable: TRUE; Vout(Max)(V): 3.6; Vout(Min)(V): 0.69; DatasheetVersion: SLTS271C; PackageVersion: 4207913/D; PackageReference: ECL10; PackageDescription: 10-Pin Plastic Special Shape, Body 15.75 x 18.92 mm; Supplier 1: Digi-Key; Supplier Part Number 1: 296-21790-ND; Supplier 2: Newark; Supplier Part Number 2: 18M7537; Supplier 3: Mouser; Supplier Part Number 3: 595-PTH04T231WAD; Eco-Plan: Pb-Free (RoHS); Mounting Technology: Through Hole; ComponentLink1Description: Manufacturer URL; ComponentLink1URL: http://www.ti.com/; ComponentLink2Description: Datasheet; ComponentLink2URL: http://www.ti.com/general/docs/lit/getliterature.tsp?genericPartNumber=PTH04T231W&fileType=pdf; ComponentLink3Description: Package Specification; ComponentLink3URL: http://www.ti.com/litv/pdf/mpds290c; ComponentLink4Description: URL Link1; ComponentLink4URL: Samples URL:http://www.ti.com/product/pth04t231w#samples
footprint TI-ECL10_V (Module, 10-Leads, Body 18.92x15.75 mm)
pins: 1 SMARTSYNC (in) "This input pin sychronizes the switching frequency of the module to an external clock frequency. The SmartSync feature can be used to sychronize the switching fequency of multiple PTH04T230/231W modules, aiding EMI noise (See Datasheet)", 2 VI (power) "The positive input voltage power node to the module, which is referenced to common GND.", 3 GND (power) "This is the common ground connection for the VI and VO power connections. It is also the 0 Vdc reference for the control inputs.", 4 VO (power) "The regulated positive power output with respect to the GND", 5 +SENSE (in) "The sense input allows the regulation circuit to compensate for voltage drop between the module and the load. For optimal voltage accuracy, +Sense must be connected to VO, close to the load.", 6 -SENSE (in) "The sense input allows the regulation circuit to compensate for voltage drop between the module and the load. For optimal voltage accuracy, -Sense must be connected to GND (pin 3), very close to the module (within 10 cm).", 7 VO ADJUST (in) "A 0.05 W 1% resistor must be directly connected between this pin and pin 6 (- Sense) to set the output voltage to a value higher than 0.69 V. The temperature stability of the resistor should be 100 ppm/degreesC (or better). (See Datasheet)", 8 TURBOTRANS (in) "This input pin adjusts the transient response of the regulator. To activate the TurboTrans feature, a 1%, 0.05 W resistor must be connected between this pin and pin 5 (+Sense) very close to the module. For a given value of (See Datasheet)", 9 TRACK (in) "This is an analog control input that enables the output voltage to follow an external voltage. This pin becomes active typically 20 ms after the input voltage has been applied, and allows direct control of the output voltage (See Datasheet)", 10 ~{INHIBIT}/UVLO (in) "The Inhibit pin is an open-collector/drain, negative logic input that is referenced to GND. Applying a low level ground signal to this input disables the module’s output and turns off the output voltage. When the Inhibit (See Datasheet)"

## PTH04T231WAS
designator U?
6 A, 2.2 to 5.5 V Input, Ceramic Cap Version, Non-Iso, Wide-Output, Adj Power Module with TurboTrans, -40 to 85 degC, 10-pin Module (ECM10); Manufacturer: Texas Instruments; PartNumber: PTH04T231WAS; Eco-Plan: TBD; Iout(Max)(A): 6; Regulated Outputs(#): 1; SubFamily: Non-Isolated POL; Vin(Max)(V): 5.5; Vin(Min)(V): 2.2; VO Adjustable: TRUE; Vout(Max)(V): 3.6; Vout(Min)(V): 0.69; DatasheetVersion: SLTS271C; PackageVersion: 4207914/E; PackageReference: ECM10; PackageDescription: 10-Pin Plastic Special Shape, Body 15.75 x 18.92 mm; Supplier 1: Digi-Key; Supplier Part Number 1: 296-21791-ND; Supplier 2: Newark; Supplier Part Number 2: 18M7538; Supplier 3: Mouser; Supplier Part Number 3: 595-PTH04T231WAS; Mounting Technology: Surface Mount; ComponentLink1Description: Manufacturer URL; ComponentLink1URL: http://www.ti.com/; ComponentLink2Description: Datasheet; ComponentLink2URL: http://www.ti.com/general/docs/lit/getliterature.tsp?genericPartNumber=PTH04T231W&fileType=pdf; ComponentLink3Description: Package Specification; ComponentLink3URL: http://www.ti.com/litv/pdf/mpds291d; ComponentLink4Description: URL Link1; ComponentLink4URL: Samples URL:http://www.ti.com/product/pth04t231w#samples
footprint TI-ECM10_V (Module, 10-Leads, Body 18.92x15.75mm)
pins: 1 SMARTSYNC (in) "This input pin sychronizes the switching frequency of the module to an external clock frequency. The SmartSync feature can be used to sychronize the switching fequency of multiple PTH04T230/231W modules, aiding EMI noise (See Datasheet)", 2 VI (power) "The positive input voltage power node to the module, which is referenced to common GND.", 3 GND (power) "This is the common ground connection for the VI and VO power connections. It is also the 0 Vdc reference for the control inputs.", 4 VO (power) "The regulated positive power output with respect to the GND", 5 +SENSE (in) "The sense input allows the regulation circuit to compensate for voltage drop between the module and the load. For optimal voltage accuracy, +Sense must be connected to VO, close to the load.", 6 -SENSE (in) "The sense input allows the regulation circuit to compensate for voltage drop between the module and the load. For optimal voltage accuracy, -Sense must be connected to GND (pin 3), very close to the module (within 10 cm).", 7 VO ADJUST (in) "A 0.05 W 1% resistor must be directly connected between this pin and pin 6 (- Sense) to set the output voltage to a value higher than 0.69 V. The temperature stability of the resistor should be 100 ppm/degreesC (or better). (See Datasheet)", 8 TURBOTRANS (in) "This input pin adjusts the transient response of the regulator. To activate the TurboTrans feature, a 1%, 0.05 W resistor must be connected between this pin and pin 5 (+Sense) very close to the module. For a given value of (See Datasheet)", 9 TRACK (in) "This is an analog control input that enables the output voltage to follow an external voltage. This pin becomes active typically 20 ms after the input voltage has been applied, and allows direct control of the output voltage (See Datasheet)", 10 ~{INHIBIT}/UVLO (in) "The Inhibit pin is an open-collector/drain, negative logic input that is referenced to GND. Applying a low level ground signal to this input disables the module’s output and turns off the output voltage. When the Inhibit (See Datasheet)"

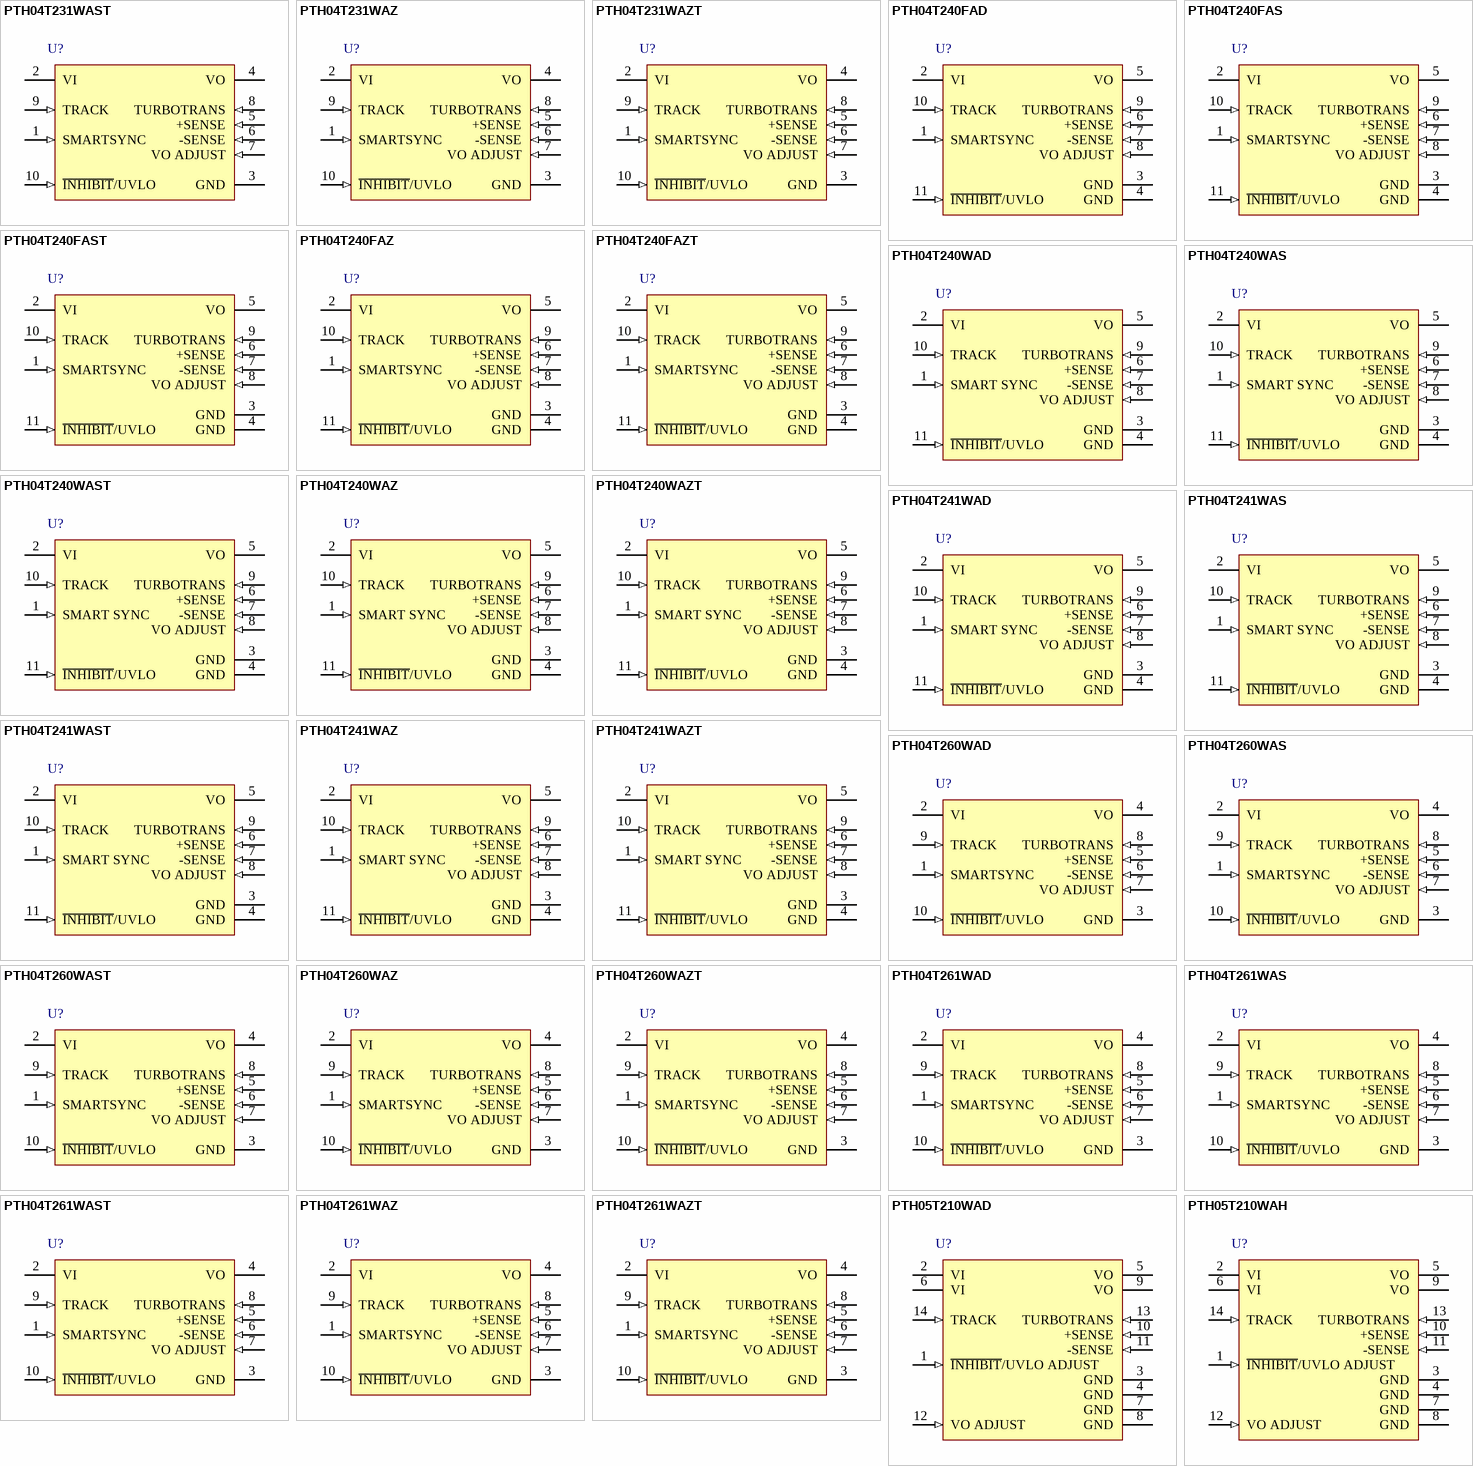
[diagram p9: symbols PTH04T231WAST to PTH05T210WAH]